# Altium footprint library lib_caddock.PcbLib: 1 footprints
Each footprint in its own frame and in the unit in brackets; x right, y up, seen from the top. Pads: shape width x height; smd on the part's side, far side on the other; paste and mask are expansions set on the pad; w line width, h text height; cw(c..) or ccw(c..) is an arc to the next point about the centre after c.
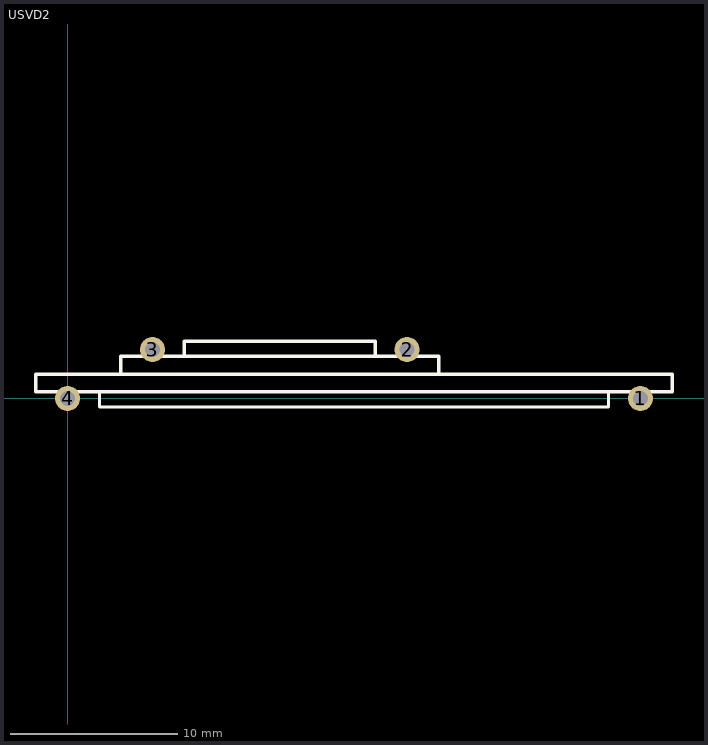
[diagram p0: the footprint, top view; thin cyan lines are the x and y axes]

## USVD2 [mm]
pads (4):
  round 1.5 hole 0.9 unplated: 1(34.29,0) 2(20.32,2.92) 3(5.08,2.92) 4(0,0)
Top Overlay:
  lines w0.2: 1.905,0.381 1.905,-0.515 32.385,-0.515 32.385,0.381 ; 3.175,1.473 3.175,2.52 22.225,2.52 22.225,1.473 ; 6.985,2.54 6.985,3.425 18.415,3.425 18.415,2.54 ; -1.905,0.4 -1.905,1.455 36.195,1.455 36.195,0.4 -1.905,0.4
3D body "usvd2 v2.step": height 15.24, standoff -10.16, extent -1.905,-0.508 36.195,3.429